# EAGLE library part OLED_2.4" (library jason_eagle6)
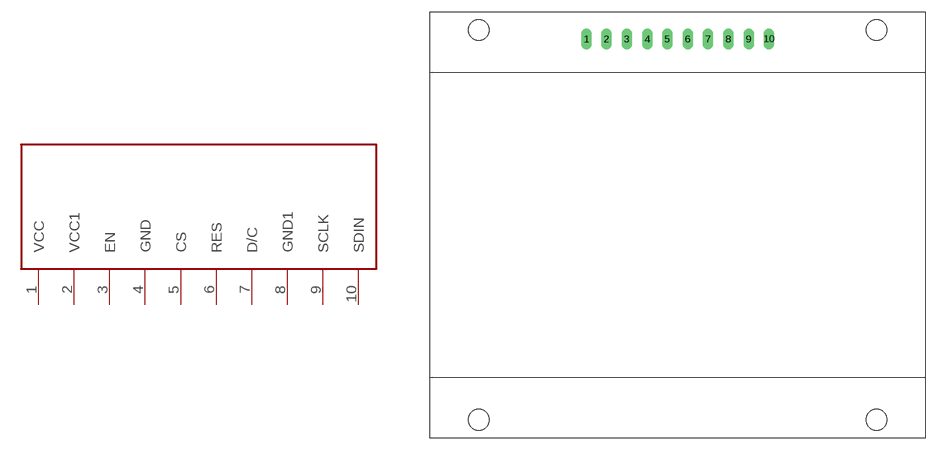
[diagram p26: symbol with the pads of OLED_2.4"; footprint OLED_2.4"]

Designator prefix -

## OLED_2.4"  [OLED_2.4"]
1  VCC
2  VCC1
3  EN
4  GND
5  CS
6  RES
7  D/C
8  GND1
9  SCLK
10  SDIN

## Footprint OLED_2.4" (pad centres in mm)
drill 0.8 long: 1 -11.43,23.25; 2 -8.89,23.25; 3 -6.35,23.25; 4 -3.81,23.25; 5 -1.27,23.25; 6 1.27,23.25; 7 3.81,23.25; 8 6.35,23.25; 9 8.89,23.25; 10 11.43,23.25
hole 2.6 at -24.9,-24.4
hole 2.6 at -24.9,24.4
hole 2.6 at 24.9,-24.4
hole 2.6 at 24.9,24.4